# Altium footprint library SR PCB Library V01.PcbLib: 402 footprints (part 14 of 26)
Each footprint in its own frame and in the unit in brackets; x right, y up, seen from the top. Pads: shape width x height; smd on the part's side, far side on the other; paste and mask are expansions set on the pad; w line width, h text height; cw(c..) or ccw(c..) is an arc to the next point about the centre after c.
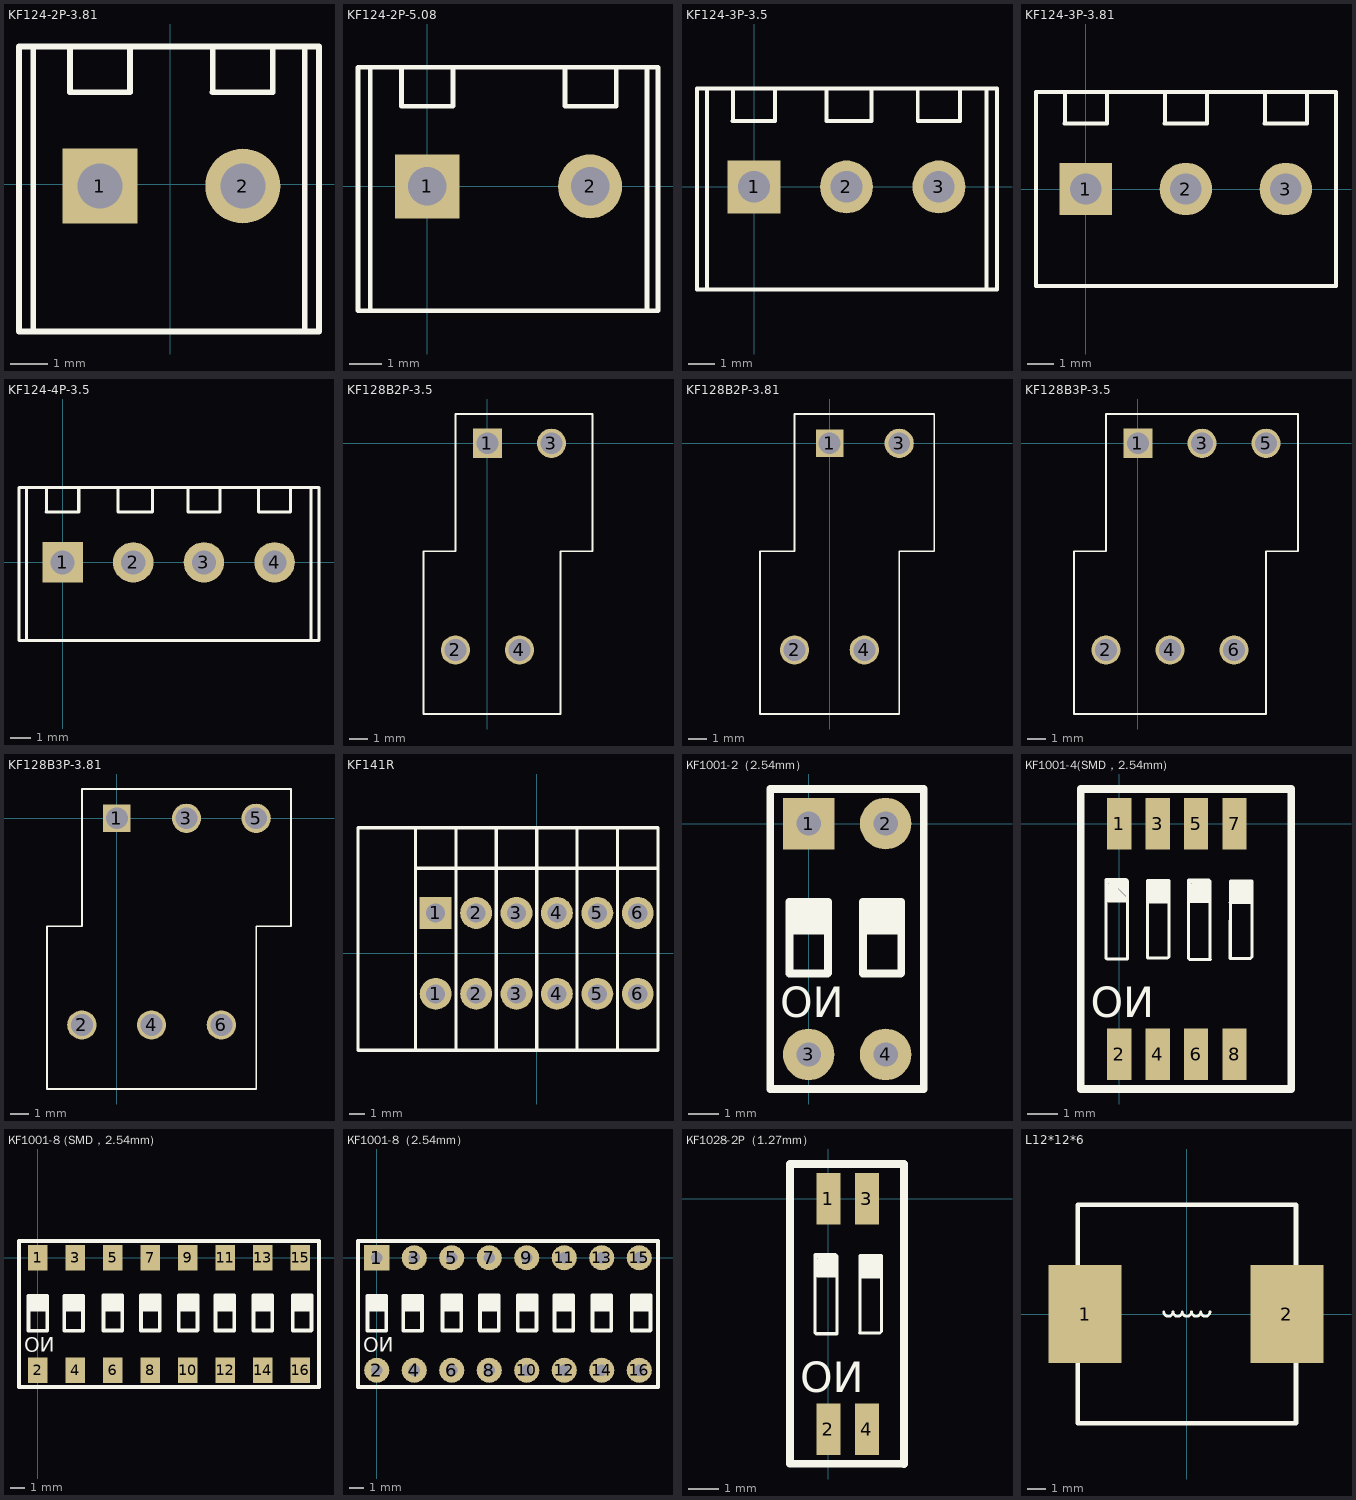
[diagram p13: the footprints below, top view; thin cyan lines are the x and y axes]

## KF124-2P-3.81 [mm]
pads (2):
  rect 2x2 hole 1.2: 1(-1.88,-0.051)
  round 2 hole 1.2: 2(1.93,-0.051)
Top Overlay:
  lines w0.15: -3.658,-3.931 -3.658,3.649 ; -2.68,3.649 -2.68,2.459 -2.69,2.449 -1.08,2.449 ; 1.13,3.649 1.13,2.459 1.12,2.449 2.73,2.449 2.73,3.639 2.72,3.649 ; 3.581,-3.931 3.581,3.649 ; -1.08,2.449 -1.08,3.639 ; -1.08,2.449 -1.08,3.639 ; -1.08,3.639 -1.09,3.649 -1.08,3.639 ; -4.039,-3.931 3.962,-3.931 3.962,3.67 -4.039,3.67 -4.039,-3.931

## KF124-2P-5.08 [mm]
pads (2):
  rect 2x2 hole 1.2: 1(0,0)
  round 2 hole 1.2: 2(5.08,0)
Top Overlay:
  lines w0.15: -1.778,-3.88 -1.778,3.7 ; -0.8,3.7 -0.8,2.51 -0.81,2.5 0.8,2.5 ; 4.3,3.7 4.3,2.5 5.9,2.5 5.9,3.7 ; 6.861,-3.88 6.861,3.7 ; 0.8,2.5 0.8,3.69 ; 0.8,2.5 0.8,3.69 ; 0.8,3.69 0.79,3.7 0.8,3.69 ; -2.159,-3.88 -2.159,3.721 7.2,3.721 7.2,-3.88 -2.159,-3.88

## KF124-3P-3.5 [mm]
pads (3):
  rect 2x2 hole 1.2: 1(0,0)
  round 2 hole 1.2: 2(3.5,0) 3(7,0)
Top Overlay:
  lines w0.15: -1.778,-3.88 -1.778,3.7 ; -0.8,3.7 -0.8,2.51 -0.81,2.5 0.8,2.5 ; 2.75,3.7 2.75,2.5 4.45,2.5 4.45,3.7 ; 6.2,3.7 6.2,2.5 7.8,2.5 7.8,3.65 ; 8.811,-3.88 8.811,3.7 ; 0.8,2.5 0.8,3.69 ; 0.8,2.5 0.8,3.69 ; 0.8,3.69 0.79,3.7 0.8,3.69 ; -2.159,-3.88 9.2,-3.88 9.2,3.721 -2.159,3.721 -2.159,-3.88

## KF124-3P-3.81 [mm]
pads (3):
  rect 2x2 hole 1.2: 1(0,0)
  round 2 hole 1.2: 2(3.81,0) 3(7.62,0)
Top Overlay:
  lines w0.15: -0.8,3.7 -0.8,2.51 -0.81,2.5 0.8,2.5 0.8,3.69 0.79,3.7 ; 3.01,3.7 3.01,2.51 3,2.5 4.61,2.5 4.61,3.69 4.6,3.7 ; 6.82,3.7 6.82,2.51 6.81,2.5 8.42,2.5 8.42,3.69 8.41,3.7 ; -1.9,-3.7 -1.9,3.7 9.53,3.7 9.53,-3.7 -1.9,-3.7

## KF124-4P-3.5 [mm]
pads (4):
  rect 2x2 hole 1.2: 1(0,0)
  round 2 hole 1.2: 2(3.5,0) 3(7,0) 4(10.5,0)
Top Overlay:
  lines w0.15: -1.778,-3.88 -1.778,3.7 ; -0.8,3.7 -0.8,2.51 -0.81,2.5 0.8,2.5 ; 2.75,3.7 2.75,2.5 4.45,2.5 4.45,3.7 ; 6.2,3.7 6.2,2.5 7.8,2.5 7.8,3.65 ; 9.7,3.7 9.7,2.5 11.3,2.5 11.3,3.65 ; 12.311,-3.88 12.311,3.7 ; 0.8,2.5 0.8,3.69 ; 0.8,2.5 0.8,3.69 ; 0.8,3.69 0.79,3.7 0.8,3.69 ; -2.159,-3.88 -2.159,3.721 12.7,3.721 12.7,-3.88 -2.159,-3.88

## KF128B2P-3.5 [mm]
pads (4):
  rect 1.6x1.6 hole 1.2: 1(0,0)
  round 1.6 hole 1.2: 2(-1.75,-11.3) 3(3.5,0) 4(1.75,-11.3)
Top Overlay:
  lines w0.1: -3.5,-14.8 -3.5,-5.9 -1.75,-5.9 -1.75,1.6 5.75,1.6 5.75,-5.9 4,-5.9 4,-14.8 -3.5,-14.8

## KF128B2P-3.81 [mm]
pads (4):
  rect 1.5x1.5 hole 1.2: 1(0,0)
  round 1.6 hole 1.2: 2(-1.91,-11.3) 3(3.81,0) 4(1.9,-11.3)
Top Overlay:
  lines w0.1: -1.91,1.6 -1.91,-5.9 -3.81,-5.9 -3.81,-14.8 3.81,-14.8 3.81,-5.9 ; -1.9,1.6 5.71,1.6 ; 3.83,-5.9 5.72,-5.9 5.72,1.6

## KF128B3P-3.5 [mm]
pads (6):
  rect 1.6x1.6 hole 1.2: 1(0,0)
  round 1.6 hole 1.2: 2(-1.75,-11.3) 3(3.5,0) 4(1.75,-11.3) 5(7,0) 6(5.25,-11.3)
Top Overlay:
  lines w0.1: -3.5,-14.8 7,-14.8 7,-5.9 8.75,-5.9 8.75,1.6 -1.75,1.6 -1.75,-5.9 -3.5,-5.9 -3.5,-14.8

## KF128B3P-3.81 [mm]
pads (6):
  rect 1.5x1.5 hole 1.2: 1(0,0)
  round 1.6 hole 1.2: 2(-1.91,-11.3) 3(3.81,0) 4(1.9,-11.3) 5(7.62,0) 6(5.715,-11.3)
Top Overlay:
  lines w0.1: -1.91,1.6 -1.91,-5.9 -3.81,-5.9 -3.81,-14.8 7.62,-14.8 7.62,-5.9 9.52,-5.9 9.52,1.6 -1.9,1.6

## KF141R [mm]
pads (12):
  round 2 hole 1.2: 1(-6.35,-2.54) 2(-3.81,-2.54) 2(-3.81,2.54) 3(-1.27,-2.54) 3(-1.27,2.54) 4(1.27,-2.54) 4(1.27,2.54) 5(3.81,-2.54) 5(3.81,2.54) 6(6.35,-2.54) 6(6.35,2.54)
  rect 2x2 hole 1.2: 1(-6.35,2.54)
Top Overlay:
  lines w0.2: -7.62,-6.08 -7.62,7.89 ; -7.62,5.35 7.62,5.35 ; -5.08,-6.08 -5.08,7.89 ; -2.54,-6.08 -2.54,7.89 ; 0,-6.08 0,7.89 ; 2.54,-6.08 2.54,7.89 ; 5.08,-6.08 5.08,7.89 ; -11.227,-6.08 7.62,-6.08 7.62,7.89 -11.227,7.89 -11.227,-6.08

## KF1001-2（2.54mm） [mm] "拨码开关"
height 1.75
pads (4):
  rect 1.7x1.7 hole 0.8: 1(0,0)
  round 1.7 hole 0.8: 2(2.54,0) 3(0,-7.62) 4(2.54,-7.62)
Top Overlay:
  lines w0.254: -1.27,-8.76 3.8,-8.76 3.8,1.14 -1.27,1.14 -1.27,-8.73 ; -0.63,-3.53 0.61,-3.53 0.46,-3.38 -0.5,-3.38 -0.53,-3.35 -0.53,-3.13 0.64,-3.13 0.49,-2.98 -0.58,-2.98 -0.63,-2.93 ; -0.61,-2.78 0.64,-2.78 ; 1.79,-3.53 3.03,-3.53 2.88,-3.38 1.92,-3.38 1.89,-3.35 1.89,-3.13 3.06,-3.13 2.91,-2.98 1.84,-2.98 1.79,-2.93 ; 1.81,-2.78 3.06,-2.78 ; -0.63,-4.95 -0.63,-2.58 0.64,-2.58 0.64,-4.93 0.62,-4.95 -0.63,-4.95 ; 1.79,-4.95 3.04,-4.95 3.06,-4.93 3.06,-2.58 1.79,-2.58 1.79,-4.95
  text "ON" at -0.93,-5.39 h1

## KF1001-4(SMD，2.54mm) [mm]
pads (8):
  rect 0.8x1.7 smd: 1(0,0) 2(0,-7.62) 3(1.27,0) 4(1.27,-7.62) 5(2.54,0) 6(2.54,-7.62) 7(3.81,0) 8(3.81,-7.62)
Top Overlay:
  drawing of 298 lines, arcs and shapes, not listed
  text "ON" at -0.93,-5.39 h1

## KF1001-8 (SMD，2.54mm) [mm] "拨码开关"
height 1.75
pads (16):
  rect 1.3x1.7 smd: 1(0,0) 2(0,-7.62) 3(2.54,0) 4(2.54,-7.62) 5(5.08,0) 6(5.08,-7.62) 7(7.62,0) 8(7.62,-7.62) 9(10.16,0) 10(10.16,-7.62) 11(12.7,0) 12(12.7,-7.62) 13(15.24,0) 14(15.24,-7.62) 15(17.78,0) 16(17.78,-7.62)
Top Overlay:
  lines w0.254: -1.27,-8.76 19.05,-8.76 19.05,1.14 -1.27,1.14 -1.27,-8.73 ; -0.63,-3.53 0.61,-3.53 0.46,-3.38 -0.5,-3.38 -0.53,-3.35 -0.53,-3.13 0.64,-3.13 0.49,-2.98 -0.58,-2.98 -0.63,-2.93 ; -0.61,-2.78 0.64,-2.78 ; 1.79,-3.53 3.03,-3.53 2.88,-3.38 1.92,-3.38 1.89,-3.35 1.89,-3.13 3.06,-3.13 2.91,-2.98 1.84,-2.98 1.79,-2.93 ; 1.81,-2.78 3.06,-2.78 ; 4.46,-3.51 5.7,-3.51 5.55,-3.36 4.59,-3.36 4.56,-3.33 4.56,-3.11 5.73,-3.11 5.58,-2.96 4.51,-2.96 4.46,-2.91 ; 4.48,-2.76 5.73,-2.76 ; 7,-3.51 8.24,-3.51 8.09,-3.36 7.13,-3.36 7.1,-3.33 7.1,-3.11 8.27,-3.11 8.12,-2.96 7.05,-2.96 7,-2.91 ; 7.02,-2.76 8.27,-2.76 ; 9.55,-3.51 10.79,-3.51 10.64,-3.36 9.68,-3.36 9.65,-3.33 9.65,-3.11 10.82,-3.11 10.67,-2.96 9.6,-2.96 9.55,-2.91 ; 9.57,-2.76 10.82,-2.76 ; 12.04,-3.51 13.28,-3.51 13.13,-3.36 12.17,-3.36 12.14,-3.33 12.14,-3.11 13.31,-3.11 13.16,-2.96 12.09,-2.96 12.04,-2.91 ; 12.06,-2.76 13.31,-2.76 ; 14.61,-3.51 15.85,-3.51 15.7,-3.36 14.74,-3.36 14.71,-3.33 14.71,-3.11 15.88,-3.11 15.73,-2.96 14.66,-2.96 14.61,-2.91 ; 14.63,-2.76 15.88,-2.76 ; 17.27,-3.51 18.51,-3.51 18.36,-3.36 17.4,-3.36 17.37,-3.33 17.37,-3.11 18.54,-3.11 18.39,-2.96 17.32,-2.96 17.27,-2.91 ; 17.29,-2.76 18.54,-2.76 ; -0.63,-4.95 0.62,-4.95 0.64,-4.93 0.64,-2.58 -0.63,-2.58 -0.63,-4.95 ; 1.79,-4.95 1.79,-2.58 3.06,-2.58 3.06,-4.93 3.04,-4.95 1.79,-4.95 ; 4.46,-4.93 5.71,-4.93 5.73,-4.91 5.73,-2.56 4.46,-2.56 4.46,-4.93 ; 7,-4.93 8.25,-4.93 8.27,-4.91 8.27,-2.56 7,-2.56 7,-4.93 ; 9.55,-4.93 10.8,-4.93 10.82,-4.91 10.82,-2.56 9.55,-2.56 9.55,-4.93 ; 12.04,-4.93 13.29,-4.93 13.31,-4.91 13.31,-2.56 12.04,-2.56 12.04,-4.93 ; 14.61,-4.93 15.86,-4.93 15.88,-4.91 15.88,-2.56 14.61,-2.56 14.61,-4.93 ; 17.27,-4.93 18.52,-4.93 18.54,-4.91 18.54,-2.56 17.27,-2.56 17.27,-4.93
  text "ON" at -0.93,-5.39 h1

## KF1001-8（2.54mm） [mm] "拨码开关"
height 1.75
pads (16):
  rect 1.7x1.7 hole 0.8: 1(0,0)
  round 1.7 hole 0.8: 2(0,-7.62) 3(2.54,0) 4(2.54,-7.62) 5(5.08,0) 6(5.08,-7.62) 7(7.62,0) 8(7.62,-7.62) 9(10.16,0) 10(10.16,-7.62) 11(12.7,0) 12(12.7,-7.62) 13(15.24,0) 14(15.24,-7.62) 15(17.78,0) 16(17.78,-7.62)
Top Overlay:
  lines w0.254: -1.27,-8.76 19.05,-8.76 19.05,1.14 -1.27,1.14 -1.27,-8.73 ; -0.63,-3.53 0.61,-3.53 0.46,-3.38 -0.5,-3.38 -0.53,-3.35 -0.53,-3.13 0.64,-3.13 0.49,-2.98 -0.58,-2.98 -0.63,-2.93 ; -0.61,-2.78 0.64,-2.78 ; 1.79,-3.53 3.03,-3.53 2.88,-3.38 1.92,-3.38 1.89,-3.35 1.89,-3.13 3.06,-3.13 2.91,-2.98 1.84,-2.98 1.79,-2.93 ; 1.81,-2.78 3.06,-2.78 ; 4.46,-3.51 5.7,-3.51 5.55,-3.36 4.59,-3.36 4.56,-3.33 4.56,-3.11 5.73,-3.11 5.58,-2.96 4.51,-2.96 4.46,-2.91 ; 4.48,-2.76 5.73,-2.76 ; 7,-3.51 8.24,-3.51 8.09,-3.36 7.13,-3.36 7.1,-3.33 7.1,-3.11 8.27,-3.11 8.12,-2.96 7.05,-2.96 7,-2.91 ; 7.02,-2.76 8.27,-2.76 ; 9.55,-3.51 10.79,-3.51 10.64,-3.36 9.68,-3.36 9.65,-3.33 9.65,-3.11 10.82,-3.11 10.67,-2.96 9.6,-2.96 9.55,-2.91 ; 9.57,-2.76 10.82,-2.76 ; 12.04,-3.51 13.28,-3.51 13.13,-3.36 12.17,-3.36 12.14,-3.33 12.14,-3.11 13.31,-3.11 13.16,-2.96 12.09,-2.96 12.04,-2.91 ; 12.06,-2.76 13.31,-2.76 ; 14.61,-3.51 15.85,-3.51 15.7,-3.36 14.74,-3.36 14.71,-3.33 14.71,-3.11 15.88,-3.11 15.73,-2.96 14.66,-2.96 14.61,-2.91 ; 14.63,-2.76 15.88,-2.76 ; 17.27,-3.51 18.51,-3.51 18.36,-3.36 17.4,-3.36 17.37,-3.33 17.37,-3.11 18.54,-3.11 18.39,-2.96 17.32,-2.96 17.27,-2.91 ; 17.29,-2.76 18.54,-2.76 ; -0.63,-4.95 0.62,-4.95 0.64,-4.93 0.64,-2.58 -0.63,-2.58 -0.63,-4.95 ; 1.79,-4.95 1.79,-2.58 3.06,-2.58 3.06,-4.93 3.04,-4.95 1.79,-4.95 ; 4.46,-4.93 5.71,-4.93 5.73,-4.91 5.73,-2.56 4.46,-2.56 4.46,-4.93 ; 7,-4.93 8.25,-4.93 8.27,-4.91 8.27,-2.56 7,-2.56 7,-4.93 ; 9.55,-4.93 10.8,-4.93 10.82,-4.91 10.82,-2.56 9.55,-2.56 9.55,-4.93 ; 12.04,-4.93 13.29,-4.93 13.31,-4.91 13.31,-2.56 12.04,-2.56 12.04,-4.93 ; 14.61,-4.93 15.86,-4.93 15.88,-4.91 15.88,-2.56 14.61,-2.56 14.61,-4.93 ; 17.27,-4.93 18.52,-4.93 18.54,-4.91 18.54,-2.56 17.27,-2.56 17.27,-4.93
  text "ON" at -0.93,-5.39 h1

## KF1028-2P（1.27mm） [mm]
pads (4):
  rect 0.8x1.7 smd: 1(0,0) 2(0,-7.62) 3(1.27,0) 4(1.27,-7.62)
Top Overlay:
  drawing of 151 lines, arcs and shapes, not listed
  text "ON" at -0.93,-5.39 h1

## L12*12*6 [mm] "L12*12*6"
height 6
pads (2):
  rect 4x5.4 smd: 1(-5.6,0) 2(5.5,0)
Top Overlay:
  lines w0.15: -1.27,0.127 ccw(c-1.016,0.127) -0.762,0.127 ccw(c-0.508,0.127) -0.254,0.127 ccw(c0,0.127) 0.254,0.127 ccw(c0.508,0.127) 0.762,0.127 ccw(c1.016,0.127) 1.27,0.127
  lines w0.254: -6,-6 -6,6 6,6 6,-6 -6,-6